# Altium integrated library Microchip PIC18.IntLib: 1897 symbols (part 18 of 110)
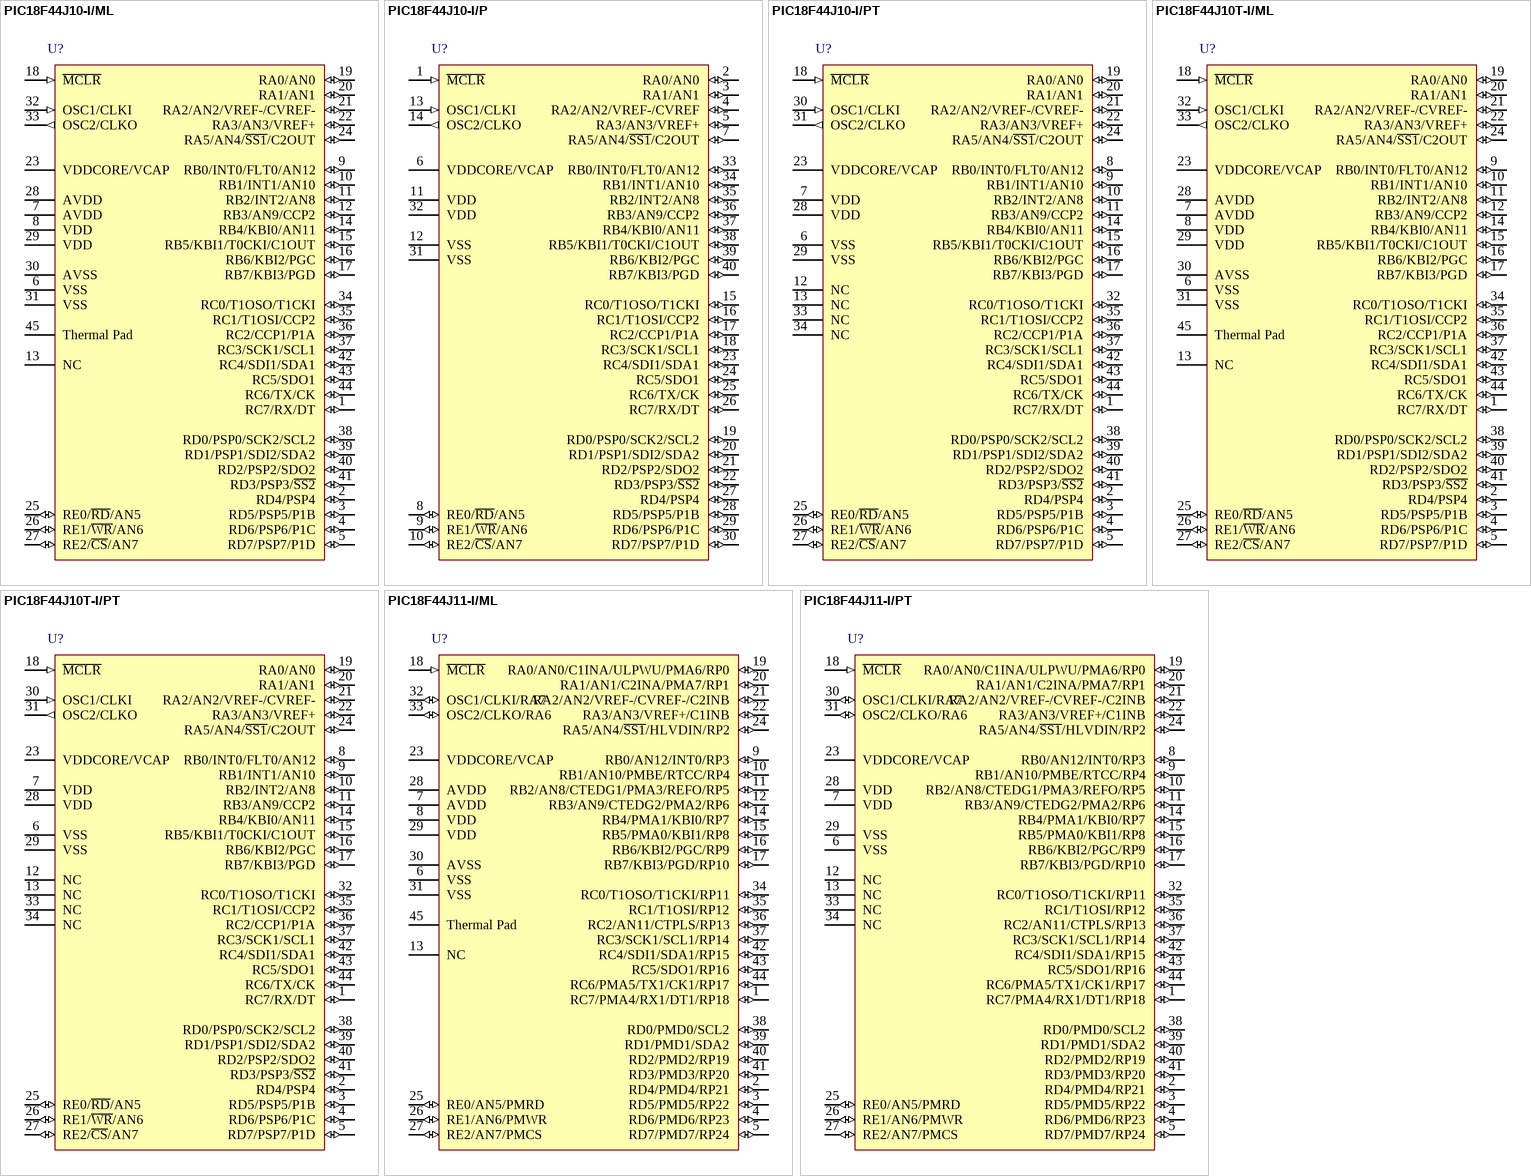
[diagram p331: symbols PIC18F44J10-I/ML to PIC18F44J11-I/PT]

## PIC18F44J11-I/ML
designator U?
Low Power, High Performance Microcontroller with nanoWatt XLP Technology, 44-pin QFN, Industrial Temperature; Manufacturer: Microchip; PartNumber: PIC18F44J11-I/ML; DatasheetVersion: revC, Oct-2009; PackageVersion: C04-103C, 12/2012; PackageReference: QFN-ML44; PackageDescription: 44-Lead Plastic Quad Flat, 8 x 8 mm Body, 0.65 mm Pitch; ComponentLink1Description: Manufacturer URL; ComponentLink1URL: http://www.microchip.com/; ComponentLink2Description: Datasheet; ComponentLink2URL: http://ww1.microchip.com/downloads/en/DeviceDoc/39932c.pdf; ComponentLink3Description: Package Specification; ComponentLink3URL: http://www.microchip.com/stellent/groups/techpub_sg/documents/packagingspec/en012702.pdf
footprint MCHP-QFN-ML44_N (QFN, 44-Leads, Body 8x8mm, Pitch 0.65mm, Thermal Pad 6.425x6.425mm, IPC Medium Density)
footprint MCHP-QFN-ML44_L (QFN, 44-Leads, Body 8x8mm, Pitch 0.65mm, Thermal Pad 6.425x6.425mm, IPC High Density)
footprint MCHP-QFN-ML44_M (QFN, 44-Leads, Body 8x8mm, Pitch 0.65mm, Thermal Pad 6.425x6.425mm, IPC Low Density)
pins: 1 RC7/PMA4/RX1/DT1/RP18 (io), 2 RD4/PMD4/RP21 (io), 3 RD5/PMD5/RP22 (io), 4 RD6/PMD6/RP23 (io), 5 RD7/PMD7/RP24 (io), 6 VSS (power), 7 AVDD (power), 8 VDD (power), 9 RB0/AN12/INT0/RP3 (io), 10 RB1/AN10/PMBE/RTCC/RP4 (io), 11 RB2/AN8/CTEDG1/PMA3/REFO/RP5 (io), 12 RB3/AN9/CTEDG2/PMA2/RP6 (io), 13 NC, 14 RB4/PMA1/KBI0/RP7 (io), 15 RB5/PMA0/KBI1/RP8 (io), 16 RB6/KBI2/PGC/RP9 (io), 17 RB7/KBI3/PGD/RP10 (io), 18 ~{MCLR} (in), 19 RA0/AN0/C1INA/ULPWU/PMA6/RP0 (io), 20 RA1/AN1/C2INA/PMA7/RP1 (io), 21 RA2/AN2/VREF-/CVREF-/C2INB (io), 22 RA3/AN3/VREF+/C1INB (io), 23 VDDCORE/VCAP (power), 24 RA5/AN4/~{SS1}/HLVDIN/RP2 (io), 25 RE0/AN5/PMRD (io), 26 RE1/AN6/PMWR (io), 27 RE2/AN7/PMCS (io), 28 AVDD (power), 29 VDD (power), 30 AVSS (power), 31 VSS (power), 32 OSC1/CLKI/RA7 (io), 33 OSC2/CLKO/RA6 (io), 34 RC0/T1OSO/T1CKI/RP11 (io), 35 RC1/T1OSI/RP12 (io), 36 RC2/AN11/CTPLS/RP13 (io), 37 RC3/SCK1/SCL1/RP14 (io), 38 RD0/PMD0/SCL2 (io), 39 RD1/PMD1/SDA2 (io), 40 RD2/PMD2/RP19 (io), 41 RD3/PMD3/RP20 (io), 42 RC4/SDI1/SDA1/RP15 (io), 43 RC5/SDO1/RP16 (io), 44 RC6/PMA5/TX1/CK1/RP17 (io), 45 Thermal Pad (power)

## PIC18F44J11-I/PT
designator U?
Low Power, High Performance Microcontroller with nanoWatt XLP Technology, 44-pin TQFP, Industrial Temperature; Manufacturer: Microchip; PartNumber: PIC18F44J11-I/PT; DatasheetVersion: revC, Oct-2009; PackageVersion: C04-076B, 12/2012; PackageReference: TQFP-PT44; PackageDescription: 44-Lead Plastic Thin Quad Flatpack, 10 x 10 mm Body, 0.8 mm Pitch; ComponentLink1Description: Manufacturer URL; ComponentLink1URL: http://www.microchip.com/; ComponentLink2Description: Datasheet; ComponentLink2URL: http://ww1.microchip.com/downloads/en/DeviceDoc/39932c.pdf; ComponentLink3Description: Package Specification; ComponentLink3URL: http://www.microchip.com/stellent/groups/techpub_sg/documents/packagingspec/en012702.pdf
footprint MCHP-TQFP-PT44_N (QFN, 44-Leads, Body 10x10mm, Pitch 0.8mm, IPC Medium Density)
footprint MCHP-TQFP-PT44_L (QFN, 44-Leads, Body 10x10mm, Pitch 0.8mm, IPC High Density)
footprint MCHP-TQFP-PT44_M (QFN, 44-Leads, Body 10x10mm, Pitch 0.8mm, IPC Low Density)
pins: 1 RC7/PMA4/RX1/DT1/RP18 (io), 2 RD4/PMD4/RP21 (io), 3 RD5/PMD5/RP22 (io), 4 RD6/PMD6/RP23 (io), 5 RD7/PMD7/RP24 (io), 6 VSS (power), 7 VDD (power), 8 RB0/AN12/INT0/RP3 (io), 9 RB1/AN10/PMBE/RTCC/RP4 (io), 10 RB2/AN8/CTEDG1/PMA3/REFO/RP5 (io), 11 RB3/AN9/CTEDG2/PMA2/RP6 (io), 12 NC, 13 NC, 14 RB4/PMA1/KBI0/RP7 (io), 15 RB5/PMA0/KBI1/RP8 (io), 16 RB6/KBI2/PGC/RP9 (io), 17 RB7/KBI3/PGD/RP10 (io), 18 ~{MCLR} (in), 19 RA0/AN0/C1INA/ULPWU/PMA6/RP0 (io), 20 RA1/AN1/C2INA/PMA7/RP1 (io), 21 RA2/AN2/VREF-/CVREF-/C2INB (io), 22 RA3/AN3/VREF+/C1INB (io), 23 VDDCORE/VCAP (power), 24 RA5/AN4/~{SS1}/HLVDIN/RP2 (io), 25 RE0/AN5/PMRD (io), 26 RE1/AN6/PMWR (io), 27 RE2/AN7/PMCS (io), 28 VDD (power), 29 VSS (power), 30 OSC1/CLKI/RA7 (io), 31 OSC2/CLKO/RA6 (io), 32 RC0/T1OSO/T1CKI/RP11 (io), 33 NC, 34 NC, 35 RC1/T1OSI/RP12 (io), 36 RC2/AN11/CTPLS/RP13 (io), 37 RC3/SCK1/SCL1/RP14 (io), 38 RD0/PMD0/SCL2 (io), 39 RD1/PMD1/SDA2 (io), 40 RD2/PMD2/RP19 (io), 41 RD3/PMD3/RP20 (io), 42 RC4/SDI1/SDA1/RP15 (io), 43 RC5/SDO1/RP16 (io), 44 RC6/PMA5/TX1/CK1/RP17 (io)

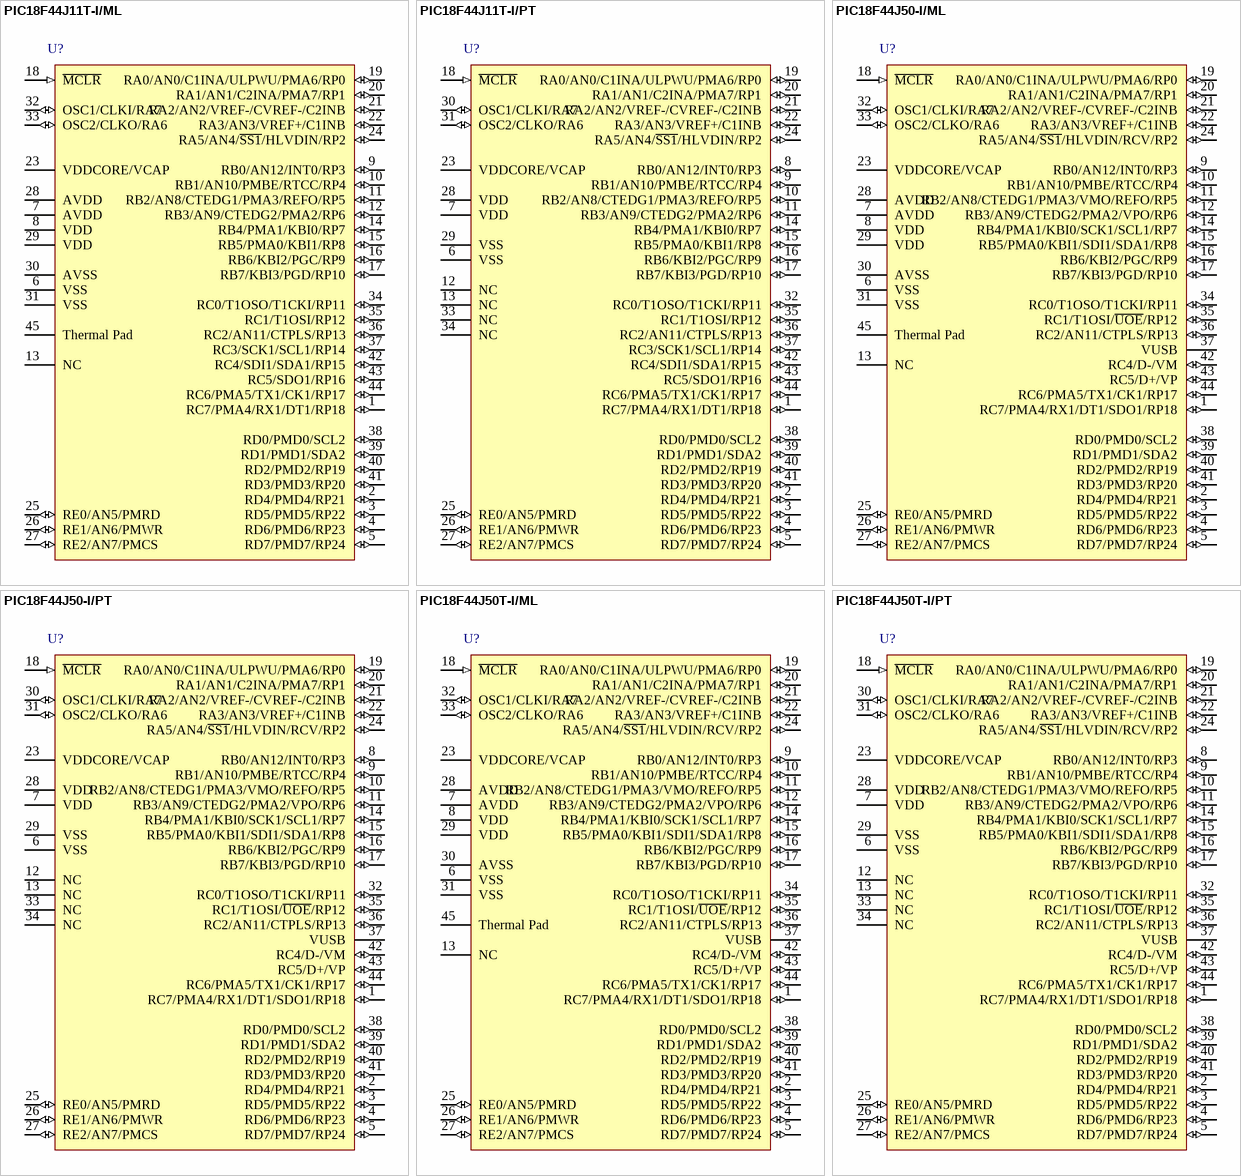
[diagram p28: symbols PIC18F44J11T-I/ML to PIC18F44J50T-I/PT]

## PIC18F44J11T-I/ML
designator U?
Low Power, High Performance Microcontroller with nanoWatt XLP Technology, 44-pin QFN, Industrial Temperature, Tape and Reel; Manufacturer: Microchip; PartNumber: PIC18F44J11T-I/ML; DatasheetVersion: revC, Oct-2009; PackageVersion: C04-103C, 12/2012; PackageReference: QFN-ML44; PackageDescription: 44-Lead Plastic Quad Flat, 8 x 8 mm Body, 0.65 mm Pitch; ComponentLink1Description: Manufacturer URL; ComponentLink1URL: http://www.microchip.com/; ComponentLink2Description: Datasheet; ComponentLink2URL: http://ww1.microchip.com/downloads/en/DeviceDoc/39932c.pdf; ComponentLink3Description: Package Specification; ComponentLink3URL: http://www.microchip.com/stellent/groups/techpub_sg/documents/packagingspec/en012702.pdf
footprint MCHP-QFN-ML44_N (QFN, 44-Leads, Body 8x8mm, Pitch 0.65mm, Thermal Pad 6.425x6.425mm, IPC Medium Density)
footprint MCHP-QFN-ML44_L (QFN, 44-Leads, Body 8x8mm, Pitch 0.65mm, Thermal Pad 6.425x6.425mm, IPC High Density)
footprint MCHP-QFN-ML44_M (QFN, 44-Leads, Body 8x8mm, Pitch 0.65mm, Thermal Pad 6.425x6.425mm, IPC Low Density)
pins: 1 RC7/PMA4/RX1/DT1/RP18 (io), 2 RD4/PMD4/RP21 (io), 3 RD5/PMD5/RP22 (io), 4 RD6/PMD6/RP23 (io), 5 RD7/PMD7/RP24 (io), 6 VSS (power), 7 AVDD (power), 8 VDD (power), 9 RB0/AN12/INT0/RP3 (io), 10 RB1/AN10/PMBE/RTCC/RP4 (io), 11 RB2/AN8/CTEDG1/PMA3/REFO/RP5 (io), 12 RB3/AN9/CTEDG2/PMA2/RP6 (io), 13 NC, 14 RB4/PMA1/KBI0/RP7 (io), 15 RB5/PMA0/KBI1/RP8 (io), 16 RB6/KBI2/PGC/RP9 (io), 17 RB7/KBI3/PGD/RP10 (io), 18 ~{MCLR} (in), 19 RA0/AN0/C1INA/ULPWU/PMA6/RP0 (io), 20 RA1/AN1/C2INA/PMA7/RP1 (io), 21 RA2/AN2/VREF-/CVREF-/C2INB (io), 22 RA3/AN3/VREF+/C1INB (io), 23 VDDCORE/VCAP (power), 24 RA5/AN4/~{SS1}/HLVDIN/RP2 (io), 25 RE0/AN5/PMRD (io), 26 RE1/AN6/PMWR (io), 27 RE2/AN7/PMCS (io), 28 AVDD (power), 29 VDD (power), 30 AVSS (power), 31 VSS (power), 32 OSC1/CLKI/RA7 (io), 33 OSC2/CLKO/RA6 (io), 34 RC0/T1OSO/T1CKI/RP11 (io), 35 RC1/T1OSI/RP12 (io), 36 RC2/AN11/CTPLS/RP13 (io), 37 RC3/SCK1/SCL1/RP14 (io), 38 RD0/PMD0/SCL2 (io), 39 RD1/PMD1/SDA2 (io), 40 RD2/PMD2/RP19 (io), 41 RD3/PMD3/RP20 (io), 42 RC4/SDI1/SDA1/RP15 (io), 43 RC5/SDO1/RP16 (io), 44 RC6/PMA5/TX1/CK1/RP17 (io), 45 Thermal Pad (power)

## PIC18F44J11T-I/PT
designator U?
Low Power, High Performance Microcontroller with nanoWatt XLP Technology, 44-pin TQFP, Industrial Temperature, Tape and Reel; Manufacturer: Microchip; PartNumber: PIC18F44J11T-I/PT; DatasheetVersion: revC, Oct-2009; PackageVersion: C04-076B, 12/2012; PackageReference: TQFP-PT44; PackageDescription: 44-Lead Plastic Thin Quad Flatpack, 10 x 10 mm Body, 0.8 mm Pitch; ComponentLink1Description: Manufacturer URL; ComponentLink1URL: http://www.microchip.com/; ComponentLink2Description: Datasheet; ComponentLink2URL: http://ww1.microchip.com/downloads/en/DeviceDoc/39932c.pdf; ComponentLink3Description: Package Specification; ComponentLink3URL: http://www.microchip.com/stellent/groups/techpub_sg/documents/packagingspec/en012702.pdf
footprint MCHP-TQFP-PT44_N (QFN, 44-Leads, Body 10x10mm, Pitch 0.8mm, IPC Medium Density)
footprint MCHP-TQFP-PT44_L (QFN, 44-Leads, Body 10x10mm, Pitch 0.8mm, IPC High Density)
footprint MCHP-TQFP-PT44_M (QFN, 44-Leads, Body 10x10mm, Pitch 0.8mm, IPC Low Density)
pins: 1 RC7/PMA4/RX1/DT1/RP18 (io), 2 RD4/PMD4/RP21 (io), 3 RD5/PMD5/RP22 (io), 4 RD6/PMD6/RP23 (io), 5 RD7/PMD7/RP24 (io), 6 VSS (power), 7 VDD (power), 8 RB0/AN12/INT0/RP3 (io), 9 RB1/AN10/PMBE/RTCC/RP4 (io), 10 RB2/AN8/CTEDG1/PMA3/REFO/RP5 (io), 11 RB3/AN9/CTEDG2/PMA2/RP6 (io), 12 NC, 13 NC, 14 RB4/PMA1/KBI0/RP7 (io), 15 RB5/PMA0/KBI1/RP8 (io), 16 RB6/KBI2/PGC/RP9 (io), 17 RB7/KBI3/PGD/RP10 (io), 18 ~{MCLR} (in), 19 RA0/AN0/C1INA/ULPWU/PMA6/RP0 (io), 20 RA1/AN1/C2INA/PMA7/RP1 (io), 21 RA2/AN2/VREF-/CVREF-/C2INB (io), 22 RA3/AN3/VREF+/C1INB (io), 23 VDDCORE/VCAP (power), 24 RA5/AN4/~{SS1}/HLVDIN/RP2 (io), 25 RE0/AN5/PMRD (io), 26 RE1/AN6/PMWR (io), 27 RE2/AN7/PMCS (io), 28 VDD (power), 29 VSS (power), 30 OSC1/CLKI/RA7 (io), 31 OSC2/CLKO/RA6 (io), 32 RC0/T1OSO/T1CKI/RP11 (io), 33 NC, 34 NC, 35 RC1/T1OSI/RP12 (io), 36 RC2/AN11/CTPLS/RP13 (io), 37 RC3/SCK1/SCL1/RP14 (io), 38 RD0/PMD0/SCL2 (io), 39 RD1/PMD1/SDA2 (io), 40 RD2/PMD2/RP19 (io), 41 RD3/PMD3/RP20 (io), 42 RC4/SDI1/SDA1/RP15 (io), 43 RC5/SDO1/RP16 (io), 44 RC6/PMA5/TX1/CK1/RP17 (io)

## PIC18F44J50-I/ML
designator U?
Low Power, High Performance USB Microcontroller with nanoWatt XLP Technology, 44-pin QFN, Industrial Temperature; Manufacturer: Microchip; PartNumber: PIC18F44J50-I/ML; DatasheetVersion: revC, Oct-2009; PackageVersion: C04-103C, 12/2012; PackageReference: QFN-ML44; PackageDescription: 44-Lead Plastic Quad Flat, 8 x 8 mm Body, 0.65 mm Pitch; ComponentLink1Description: Manufacturer URL; ComponentLink1URL: http://www.microchip.com/; ComponentLink2Description: Datasheet; ComponentLink2URL: http://ww1.microchip.com/downloads/en/DeviceDoc/39931c.pdf; ComponentLink3Description: Package Specification; ComponentLink3URL: http://www.microchip.com/stellent/groups/techpub_sg/documents/packagingspec/en012702.pdf
footprint MCHP-QFN-ML44_N (QFN, 44-Leads, Body 8x8mm, Pitch 0.65mm, Thermal Pad 6.425x6.425mm, IPC Medium Density)
footprint MCHP-QFN-ML44_L (QFN, 44-Leads, Body 8x8mm, Pitch 0.65mm, Thermal Pad 6.425x6.425mm, IPC High Density)
footprint MCHP-QFN-ML44_M (QFN, 44-Leads, Body 8x8mm, Pitch 0.65mm, Thermal Pad 6.425x6.425mm, IPC Low Density)
pins: 1 RC7/PMA4/RX1/DT1/SDO1/RP18 (io), 2 RD4/PMD4/RP21 (io), 3 RD5/PMD5/RP22 (io), 4 RD6/PMD6/RP23 (io), 5 RD7/PMD7/RP24 (io), 6 VSS (power), 7 AVDD (power), 8 VDD (power), 9 RB0/AN12/INT0/RP3 (io), 10 RB1/AN10/PMBE/RTCC/RP4 (io), 11 RB2/AN8/CTEDG1/PMA3/VMO/REFO/RP5 (io), 12 RB3/AN9/CTEDG2/PMA2/VPO/RP6 (io), 13 NC, 14 RB4/PMA1/KBI0/SCK1/SCL1/RP7 (io), 15 RB5/PMA0/KBI1/SDI1/SDA1/RP8 (io), 16 RB6/KBI2/PGC/RP9 (io), 17 RB7/KBI3/PGD/RP10 (io), 18 ~{MCLR} (in), 19 RA0/AN0/C1INA/ULPWU/PMA6/RP0 (io), 20 RA1/AN1/C2INA/PMA7/RP1 (io), 21 RA2/AN2/VREF-/CVREF-/C2INB (io), 22 RA3/AN3/VREF+/C1INB (io), 23 VDDCORE/VCAP (power), 24 RA5/AN4/~{SS1}/HLVDIN/RCV/RP2 (io), 25 RE0/AN5/PMRD (io), 26 RE1/AN6/PMWR (io), 27 RE2/AN7/PMCS (io), 28 AVDD (power), 29 VDD (power), 30 AVSS (power), 31 VSS (power), 32 OSC1/CLKI/RA7 (io), 33 OSC2/CLKO/RA6 (io), 34 RC0/T1OSO/T1CKI/RP11 (io), 35 RC1/T1OSI/~{UOE}/RP12 (io), 36 RC2/AN11/CTPLS/RP13 (io), 37 VUSB (power), 38 RD0/PMD0/SCL2 (io), 39 RD1/PMD1/SDA2 (io), 40 RD2/PMD2/RP19 (io), 41 RD3/PMD3/RP20 (io), 42 RC4/D-/VM (io), 43 RC5/D+/VP (io), 44 RC6/PMA5/TX1/CK1/RP17 (io), 45 Thermal Pad (power)

## PIC18F44J50-I/PT
designator U?
Low Power, High Performance USB Microcontroller with nanoWatt XLP Technology, 44-pin TQFP, Industrial Temperature; Manufacturer: Microchip; PartNumber: PIC18F44J50-I/PT; DatasheetVersion: revC, Oct-2009; PackageVersion: C04-076B, 12/2012; PackageReference: TQFP-PT44; PackageDescription: 44-Lead Plastic Thin Quad Flatpack, 10 x 10 mm Body, 0.8 mm Pitch; ComponentLink1Description: Manufacturer URL; ComponentLink1URL: http://www.microchip.com/; ComponentLink2Description: Datasheet; ComponentLink2URL: http://ww1.microchip.com/downloads/en/DeviceDoc/39931c.pdf; ComponentLink3Description: Package Specification; ComponentLink3URL: http://www.microchip.com/stellent/groups/techpub_sg/documents/packagingspec/en012702.pdf
footprint MCHP-TQFP-PT44_N (QFN, 44-Leads, Body 10x10mm, Pitch 0.8mm, IPC Medium Density)
footprint MCHP-TQFP-PT44_L (QFN, 44-Leads, Body 10x10mm, Pitch 0.8mm, IPC High Density)
footprint MCHP-TQFP-PT44_M (QFN, 44-Leads, Body 10x10mm, Pitch 0.8mm, IPC Low Density)
pins: 1 RC7/PMA4/RX1/DT1/SDO1/RP18 (io), 2 RD4/PMD4/RP21 (io), 3 RD5/PMD5/RP22 (io), 4 RD6/PMD6/RP23 (io), 5 RD7/PMD7/RP24 (io), 6 VSS (power), 7 VDD (power), 8 RB0/AN12/INT0/RP3 (io), 9 RB1/AN10/PMBE/RTCC/RP4 (io), 10 RB2/AN8/CTEDG1/PMA3/VMO/REFO/RP5 (io), 11 RB3/AN9/CTEDG2/PMA2/VPO/RP6 (io), 12 NC, 13 NC, 14 RB4/PMA1/KBI0/SCK1/SCL1/RP7 (io), 15 RB5/PMA0/KBI1/SDI1/SDA1/RP8 (io), 16 RB6/KBI2/PGC/RP9 (io), 17 RB7/KBI3/PGD/RP10 (io), 18 ~{MCLR} (in), 19 RA0/AN0/C1INA/ULPWU/PMA6/RP0 (io), 20 RA1/AN1/C2INA/PMA7/RP1 (io), 21 RA2/AN2/VREF-/CVREF-/C2INB (io), 22 RA3/AN3/VREF+/C1INB (io), 23 VDDCORE/VCAP (power), 24 RA5/AN4/~{SS1}/HLVDIN/RCV/RP2 (io), 25 RE0/AN5/PMRD (io), 26 RE1/AN6/PMWR (io), 27 RE2/AN7/PMCS (io), 28 VDD (power), 29 VSS (power), 30 OSC1/CLKI/RA7 (io), 31 OSC2/CLKO/RA6 (io), 32 RC0/T1OSO/T1CKI/RP11 (io), 33 NC, 34 NC, 35 RC1/T1OSI/~{UOE}/RP12 (io), 36 RC2/AN11/CTPLS/RP13 (io), 37 VUSB (power), 38 RD0/PMD0/SCL2 (io), 39 RD1/PMD1/SDA2 (io), 40 RD2/PMD2/RP19 (io), 41 RD3/PMD3/RP20 (io), 42 RC4/D-/VM (io), 43 RC5/D+/VP (io), 44 RC6/PMA5/TX1/CK1/RP17 (io)

## PIC18F44J50T-I/ML
designator U?
Low Power, High Performance USB Microcontroller with nanoWatt XLP Technology, 44-pin QFN, Industrial Temperature, Tape and Reel; Manufacturer: Microchip; PartNumber: PIC18F44J50T-I/ML; DatasheetVersion: revC, Oct-2009; PackageVersion: C04-103C, 12/2012; PackageReference: QFN-ML44; PackageDescription: 44-Lead Plastic Quad Flat, 8 x 8 mm Body, 0.65 mm Pitch; ComponentLink1Description: Manufacturer URL; ComponentLink1URL: http://www.microchip.com/; ComponentLink2Description: Datasheet; ComponentLink2URL: http://ww1.microchip.com/downloads/en/DeviceDoc/39931c.pdf; ComponentLink3Description: Package Specification; ComponentLink3URL: http://www.microchip.com/stellent/groups/techpub_sg/documents/packagingspec/en012702.pdf
footprint MCHP-QFN-ML44_N (QFN, 44-Leads, Body 8x8mm, Pitch 0.65mm, Thermal Pad 6.425x6.425mm, IPC Medium Density)
footprint MCHP-QFN-ML44_L (QFN, 44-Leads, Body 8x8mm, Pitch 0.65mm, Thermal Pad 6.425x6.425mm, IPC High Density)
footprint MCHP-QFN-ML44_M (QFN, 44-Leads, Body 8x8mm, Pitch 0.65mm, Thermal Pad 6.425x6.425mm, IPC Low Density)
pins: 1 RC7/PMA4/RX1/DT1/SDO1/RP18 (io), 2 RD4/PMD4/RP21 (io), 3 RD5/PMD5/RP22 (io), 4 RD6/PMD6/RP23 (io), 5 RD7/PMD7/RP24 (io), 6 VSS (power), 7 AVDD (power), 8 VDD (power), 9 RB0/AN12/INT0/RP3 (io), 10 RB1/AN10/PMBE/RTCC/RP4 (io), 11 RB2/AN8/CTEDG1/PMA3/VMO/REFO/RP5 (io), 12 RB3/AN9/CTEDG2/PMA2/VPO/RP6 (io), 13 NC, 14 RB4/PMA1/KBI0/SCK1/SCL1/RP7 (io), 15 RB5/PMA0/KBI1/SDI1/SDA1/RP8 (io), 16 RB6/KBI2/PGC/RP9 (io), 17 RB7/KBI3/PGD/RP10 (io), 18 ~{MCLR} (in), 19 RA0/AN0/C1INA/ULPWU/PMA6/RP0 (io), 20 RA1/AN1/C2INA/PMA7/RP1 (io), 21 RA2/AN2/VREF-/CVREF-/C2INB (io), 22 RA3/AN3/VREF+/C1INB (io), 23 VDDCORE/VCAP (power), 24 RA5/AN4/~{SS1}/HLVDIN/RCV/RP2 (io), 25 RE0/AN5/PMRD (io), 26 RE1/AN6/PMWR (io), 27 RE2/AN7/PMCS (io), 28 AVDD (power), 29 VDD (power), 30 AVSS (power), 31 VSS (power), 32 OSC1/CLKI/RA7 (io), 33 OSC2/CLKO/RA6 (io), 34 RC0/T1OSO/T1CKI/RP11 (io), 35 RC1/T1OSI/~{UOE}/RP12 (io), 36 RC2/AN11/CTPLS/RP13 (io), 37 VUSB (power), 38 RD0/PMD0/SCL2 (io), 39 RD1/PMD1/SDA2 (io), 40 RD2/PMD2/RP19 (io), 41 RD3/PMD3/RP20 (io), 42 RC4/D-/VM (io), 43 RC5/D+/VP (io), 44 RC6/PMA5/TX1/CK1/RP17 (io), 45 Thermal Pad (power)

## PIC18F44J50T-I/PT
designator U?
Low Power, High Performance USB Microcontroller with nanoWatt XLP Technology, 44-pin TQFP, Industrial Temperature, Tape and Reel; Manufacturer: Microchip; PartNumber: PIC18F44J50T-I/PT; DatasheetVersion: revC, Oct-2009; PackageVersion: C04-076B, 12/2012; PackageReference: TQFP-PT44; PackageDescription: 44-Lead Plastic Thin Quad Flatpack, 10 x 10 mm Body, 0.8 mm Pitch; ComponentLink1Description: Manufacturer URL; ComponentLink1URL: http://www.microchip.com/; ComponentLink2Description: Datasheet; ComponentLink2URL: http://ww1.microchip.com/downloads/en/DeviceDoc/39931c.pdf; ComponentLink3Description: Package Specification; ComponentLink3URL: http://www.microchip.com/stellent/groups/techpub_sg/documents/packagingspec/en012702.pdf
footprint MCHP-TQFP-PT44_N (QFN, 44-Leads, Body 10x10mm, Pitch 0.8mm, IPC Medium Density)
footprint MCHP-TQFP-PT44_L (QFN, 44-Leads, Body 10x10mm, Pitch 0.8mm, IPC High Density)
footprint MCHP-TQFP-PT44_M (QFN, 44-Leads, Body 10x10mm, Pitch 0.8mm, IPC Low Density)
pins: 1 RC7/PMA4/RX1/DT1/SDO1/RP18 (io), 2 RD4/PMD4/RP21 (io), 3 RD5/PMD5/RP22 (io), 4 RD6/PMD6/RP23 (io), 5 RD7/PMD7/RP24 (io), 6 VSS (power), 7 VDD (power), 8 RB0/AN12/INT0/RP3 (io), 9 RB1/AN10/PMBE/RTCC/RP4 (io), 10 RB2/AN8/CTEDG1/PMA3/VMO/REFO/RP5 (io), 11 RB3/AN9/CTEDG2/PMA2/VPO/RP6 (io), 12 NC, 13 NC, 14 RB4/PMA1/KBI0/SCK1/SCL1/RP7 (io), 15 RB5/PMA0/KBI1/SDI1/SDA1/RP8 (io), 16 RB6/KBI2/PGC/RP9 (io), 17 RB7/KBI3/PGD/RP10 (io), 18 ~{MCLR} (in), 19 RA0/AN0/C1INA/ULPWU/PMA6/RP0 (io), 20 RA1/AN1/C2INA/PMA7/RP1 (io), 21 RA2/AN2/VREF-/CVREF-/C2INB (io), 22 RA3/AN3/VREF+/C1INB (io), 23 VDDCORE/VCAP (power), 24 RA5/AN4/~{SS1}/HLVDIN/RCV/RP2 (io), 25 RE0/AN5/PMRD (io), 26 RE1/AN6/PMWR (io), 27 RE2/AN7/PMCS (io), 28 VDD (power), 29 VSS (power), 30 OSC1/CLKI/RA7 (io), 31 OSC2/CLKO/RA6 (io), 32 RC0/T1OSO/T1CKI/RP11 (io), 33 NC, 34 NC, 35 RC1/T1OSI/~{UOE}/RP12 (io), 36 RC2/AN11/CTPLS/RP13 (io), 37 VUSB (power), 38 RD0/PMD0/SCL2 (io), 39 RD1/PMD1/SDA2 (io), 40 RD2/PMD2/RP19 (io), 41 RD3/PMD3/RP20 (io), 42 RC4/D-/VM (io), 43 RC5/D+/VP (io), 44 RC6/PMA5/TX1/CK1/RP17 (io)

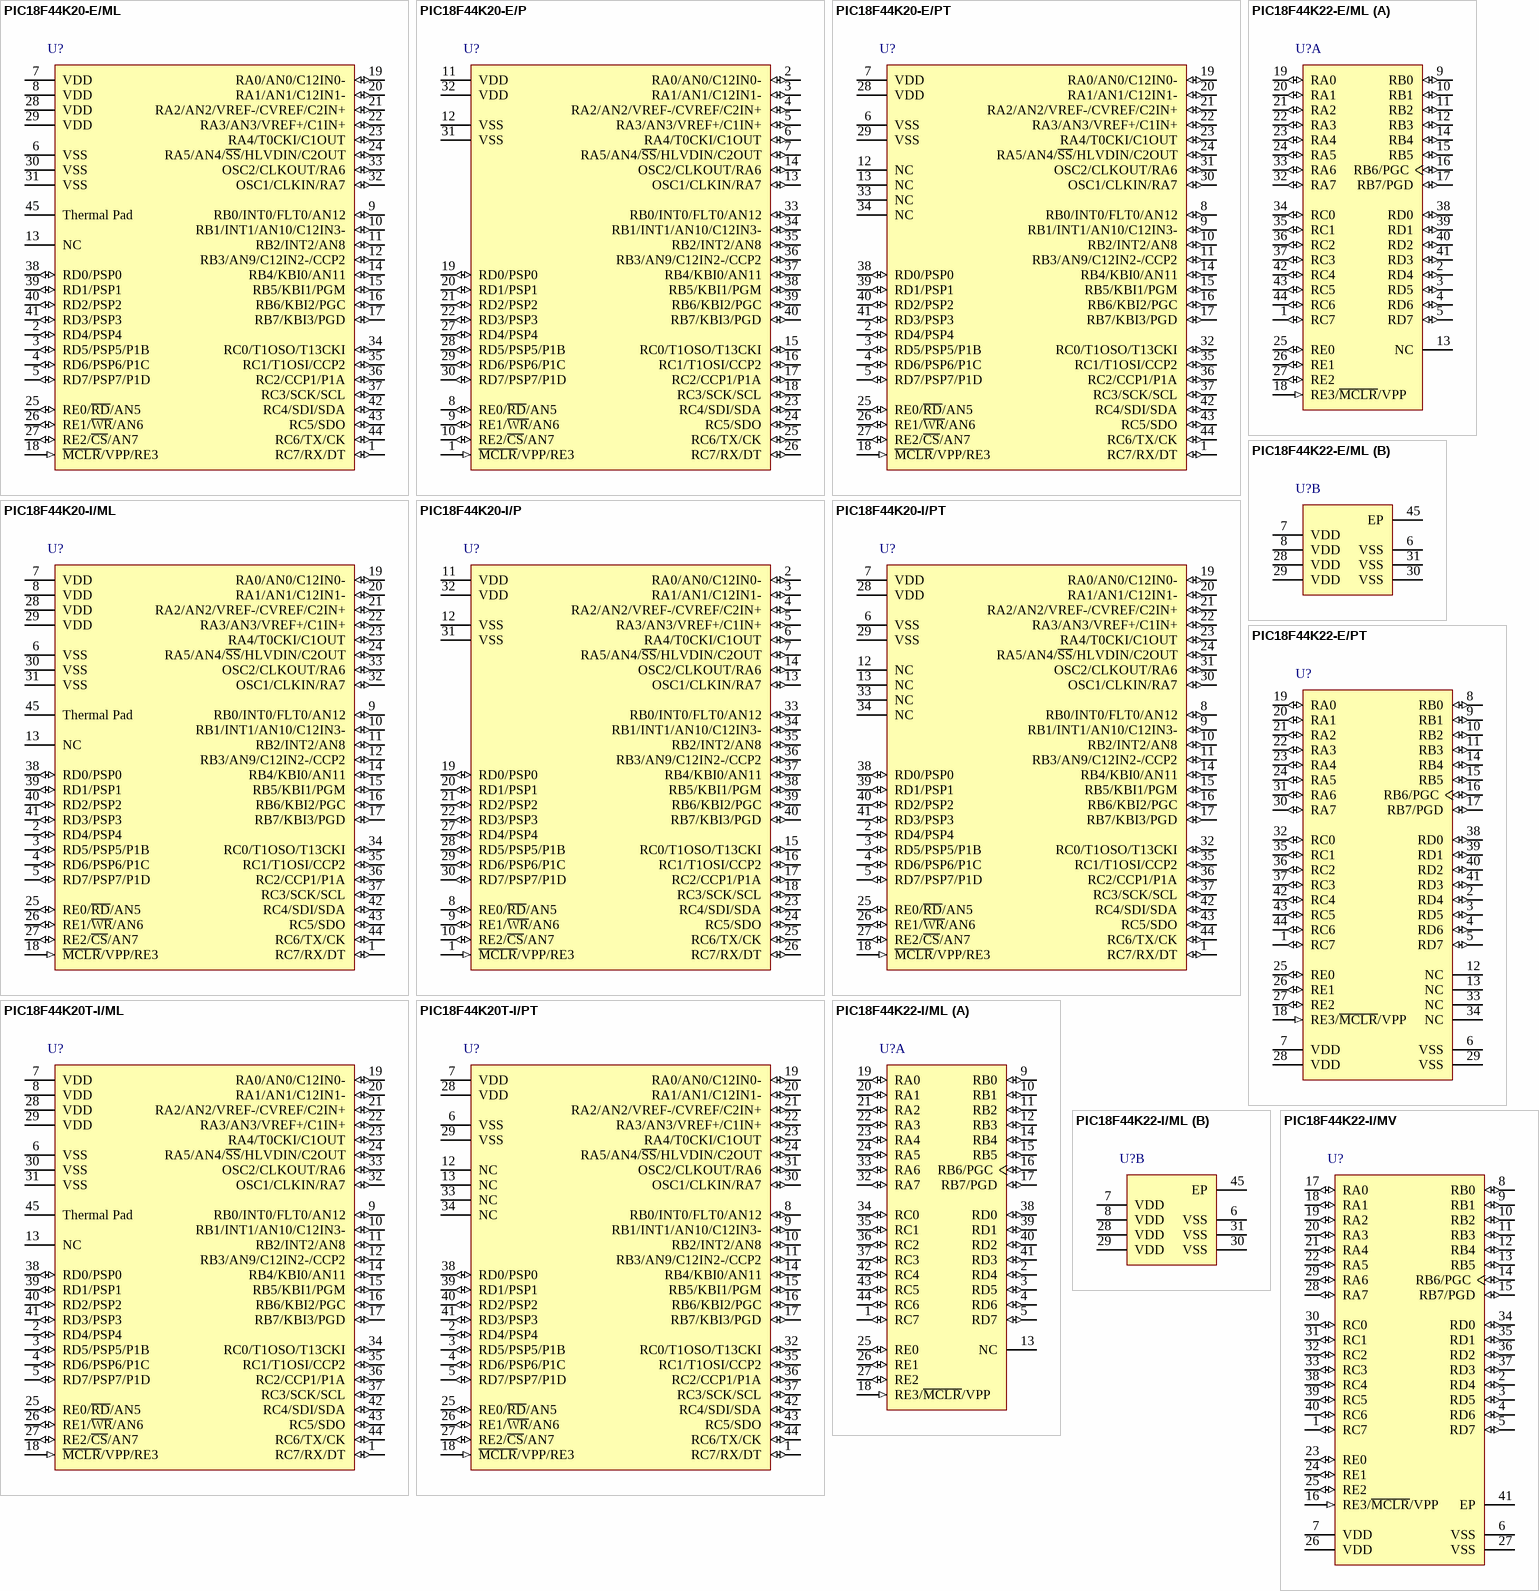
[diagram p29: symbols PIC18F44K20-E/ML to PIC18F44K22-I/MV]

## PIC18F44K20-E/ML
designator U?
Flash Microcontroller with 10-Bit A/D and nanoWatt Technology, 16K Flash, 44-Pin QFN, Extended Temperature Range; Manufacturer: Microchip; PartNumber: PIC18F44K20-E/ML; DatasheetVersion: revF, Sep-2009; PackageVersion: C04-103C, 12/2012; PackageReference: QFN-ML44; PackageDescription: 44-Lead Plastic Quad Flat, 8 x 8 mm Body, 0.65 mm Pitch; ComponentLink1Description: Manufacturer URL; ComponentLink1URL: http://www.microchip.com/; ComponentLink2Description: Datasheet; ComponentLink2URL: http://ww1.microchip.com/downloads/en/DeviceDoc/41303F.pdf; ComponentLink3Description: Package Specification; ComponentLink3URL: http://www.microchip.com/stellent/groups/techpub_sg/documents/packagingspec/en012702.pdf
footprint MCHP-QFN-ML44_N (QFN, 44-Leads, Body 8x8mm, Pitch 0.65mm, Thermal Pad 6.425x6.425mm, IPC Medium Density)
footprint MCHP-QFN-ML44_L (QFN, 44-Leads, Body 8x8mm, Pitch 0.65mm, Thermal Pad 6.425x6.425mm, IPC High Density)
footprint MCHP-QFN-ML44_M (QFN, 44-Leads, Body 8x8mm, Pitch 0.65mm, Thermal Pad 6.425x6.425mm, IPC Low Density)
pins: 1 RC7/RX/DT (io), 2 RD4/PSP4 (io), 3 RD5/PSP5/P1B (io), 4 RD6/PSP6/P1C (io), 5 RD7/PSP7/P1D (io), 6 VSS (power), 7 VDD (power), 8 VDD (power), 9 RB0/INT0/FLT0/AN12 (io), 10 RB1/INT1/AN10/C12IN3- (io), 11 RB2/INT2/AN8 (io), 12 RB3/AN9/C12IN2-/CCP2 (io), 13 NC, 14 RB4/KBI0/AN11 (io), 15 RB5/KBI1/PGM (io), 16 RB6/KBI2/PGC (io), 17 RB7/KBI3/PGD (io), 18 ~{MCLR}/VPP/RE3 (in), 19 RA0/AN0/C12IN0- (io), 20 RA1/AN1/C12IN1- (io), 21 RA2/AN2/VREF-/CVREF/C2IN+ (io), 22 RA3/AN3/VREF+/C1IN+ (io), 23 RA4/T0CKI/C1OUT (io), 24 RA5/AN4/~{SS}/HLVDIN/C2OUT (io), 25 RE0/~{RD}/AN5 (io), 26 RE1/~{WR}/AN6 (io), 27 RE2/~{CS}/AN7 (io), 28 VDD (power), 29 VDD (power), 30 VSS (power), 31 VSS (power), 32 OSC1/CLKIN/RA7 (io), 33 OSC2/CLKOUT/RA6 (io), 34 RC0/T1OSO/T13CKI (io), 35 RC1/T1OSI/CCP2 (io), 36 RC2/CCP1/P1A (io), 37 RC3/SCK/SCL (io), 38 RD0/PSP0 (io), 39 RD1/PSP1 (io), 40 RD2/PSP2 (io), 41 RD3/PSP3 (io), 42 RC4/SDI/SDA (io), 43 RC5/SDO (io), 44 RC6/TX/CK (io), 45 Thermal Pad (power)